# Altium schematic symbol library AMS1117.SchLib: 1 symbol
Pins are listed as number, name and electrical type; pins without a type are passive.

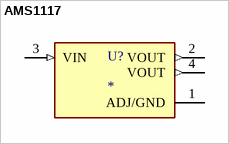
[diagram p0: symbol AMS1117]

## AMS1117
designator U?
Sot223/Pkg 1-Amp 5-Volt Low Drop Out Voltage Regulatator; MP: AMS1117; MF: {'manufacturer': u'Advanced Monolithic Systems'}; Availability: Unavailable; Value: *; Package: None; Price: None
footprint SOT229P700X180-4N
pins: 1 ADJ/GND (power), 2 VOUT (out), 3 VIN (in), 4 VOUT (out)